# EAGLE library part TFDU6300 (library naut)
IRDA
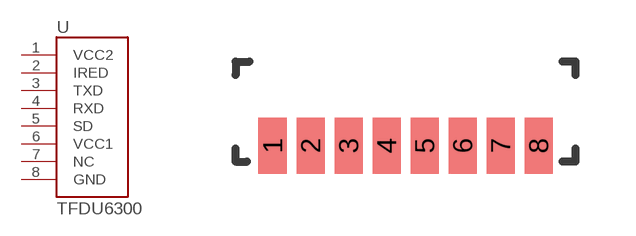
[diagram p7: symbol with the pads of TFDU6300; footprint TFDU6300]

Designator prefix U

## TFDU6300TFDU6300  [TFDU6300]
1  VCC2
2  IRED
3  TXD
4  RXD
5  SD
6  VCC1
7  NC
8  GND

## Footprint TFDU6300 (pad centres in mm)
smd 0.7 x 1.4: 1 -3.325,-1.02; 2 -2.375,-1.02; 3 -1.425,-1.02; 4 -0.475,-1.02; 5 0.475,-1.02; 6 1.425,-1.02; 7 2.375,-1.02; 8 3.325,-1.02